# Altium schematic symbol library IVT_LIB.SchLib: 55 symbols
Pins are listed as number, name and electrical type; pins without a type are passive.

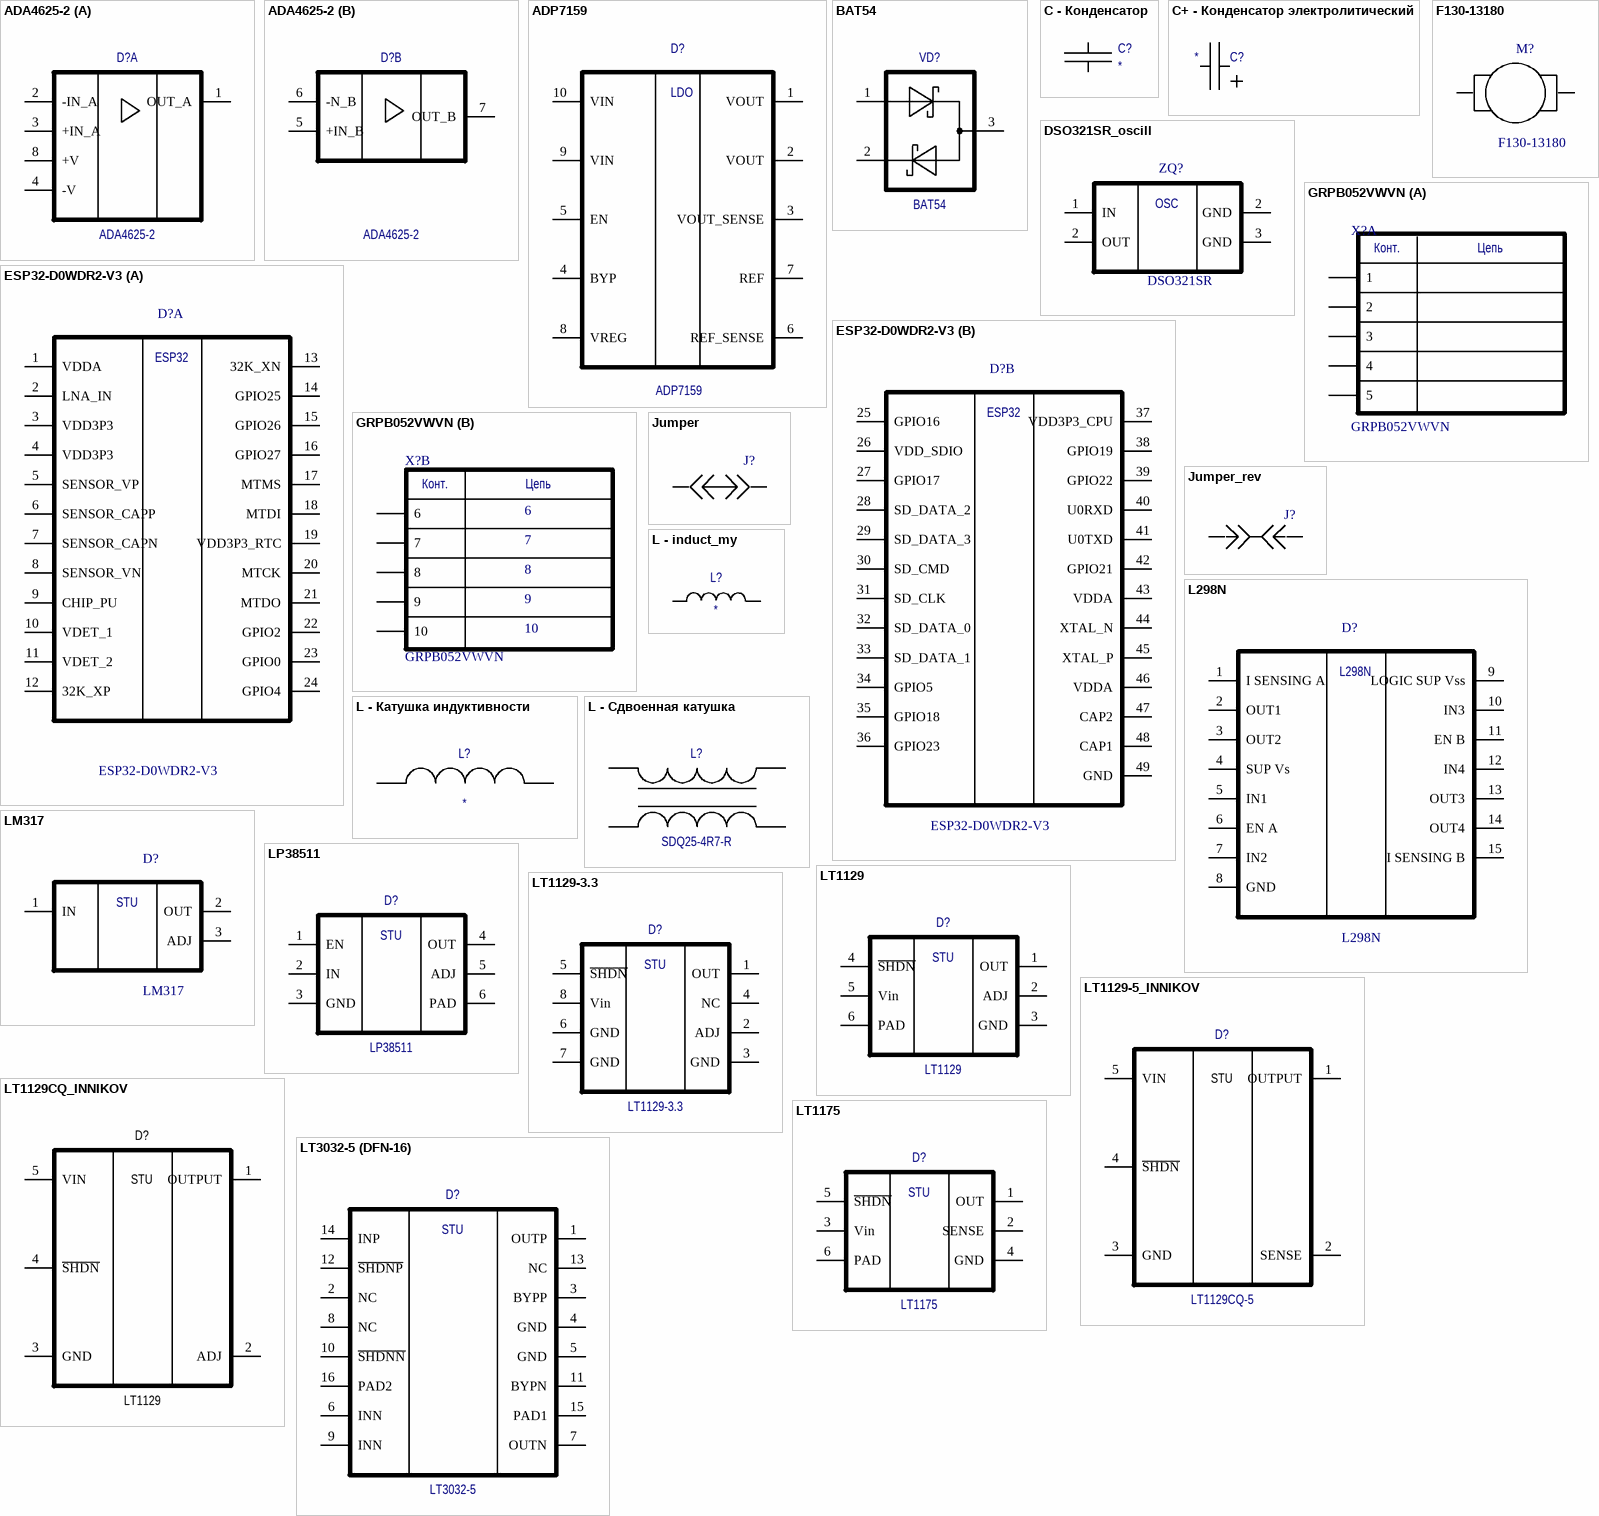
[diagram p0: symbols ADA4625-2 to LT3032-5 (DFN-16)]

## ADA4625-2
designator D?, comment value ADA4625-2  (hidden comment: ADA4625-2ARDZ (SOIC-8_N_EP) Analog Devices)
Company: Analog Devices; PartNumber: ADA4625-2ARDZ; Package: SOIC-8_N_EP
part A pins: 1 OUT_A, 2 -IN_A, 3 +IN_A, 4 -V, 8 +V
part B pins: 5 +IN_B, 6 -N_B, 7 OUT_B

## ADP7159
designator D?
pins: 1 VOUT, 2 VOUT, 3 VOUT_SENSE, 4 BYP, 5 EN, 6 REF_SENSE, 7 REF, 8 VREG, 9 VIN, 10 VIN
text: LDO

## BAT54
designator VD?
PartNumber: BAT54S; Company: Philips; Package: SOT-23; Value: BAT54
footprint SOT-23
pins: 1 A, 2 C, 3 AC

## C - Конденсатор
designator C?, comment *Ф ±* * * *, *  (value not drawn)
Company: *; PartNumber: *; Tolerance: *; Voltage: *; Type: *; Package: *; Value: *
pins: 1, 2

## C+ - Конденсатор электролитический
designator C?, comment *Ф ±* * * *, *  (value not drawn)
Company: *; Tolerance: *; Voltage: *; Type: *; PartNumber: *; Package: *; Value: *
pins: 1, 2

## DSO321SR_oscill
designator ZQ?, comment DSO321SR
pins: 1 IN, 2 GND, 2 OUT, 3 GND
text: OSC

## ESP32-D0WDR2-V3
designator D?
part A pins: 1 VDDA, 2 LNA_IN, 3 VDD3P3, 4 VDD3P3, 5 SENSOR_VP, 6 SENSOR_CAPP, 7 SENSOR_CAPN, 8 SENSOR_VN, 9 CHIP_PU, 10 VDET_1, 11 VDET_2, 12 32K_XP, 13 32K_XN, 14 GPIO25, 15 GPIO26, 16 GPIO27, 17 MTMS, 18 MTDI, 19 VDD3P3_RTC, 20 MTCK, 21 MTDO, 22 GPIO2, 23 GPIO0, 24 GPIO4
part B pins: 25 GPIO16, 26 VDD_SDIO, 27 GPIO17, 28 SD_DATA_2, 29 SD_DATA_3, 30 SD_CMD, 31 SD_CLK, 32 SD_DATA_0, 33 SD_DATA_1, 34 GPIO5, 35 GPIO18, 36 GPIO23, 37 VDD3P3_CPU, 38 GPIO19, 39 GPIO22, 40 U0RXD, 41 U0TXD, 42 GPIO21, 43 VDDA, 44 XTAL_N, 45 XTAL_P, 46 VDDA, 47 CAP2, 48 CAP1, 49 GND
part A text: ESP32
part B text: ESP32

## F130-13180
designator M?
pins: 1, 2

## GRPB052VWVN
designator X?
part A pins: 1, 2, 3, 4, 5
part B pins: 6, 7, 8, 9, 10
part A text: Конт.; Цепь
part B text: Конт.; Цепь

## Jumper
designator J?  (value not drawn)
pins: 1, 2

## Jumper_rev
designator J?, comment jumper  (value not drawn)
pins: 1, 2

## L298N
designator D?
pins: 1 I SENSING A, 2 OUT1, 3 OUT2, 4 SUP Vs, 5 IN1, 6 EN A, 7 IN2, 8 GND, 9 LOGIC SUP Vss, 10 IN3, 11 EN B, 12 IN4, 13 OUT3, 14 OUT4, 15 I SENSING B

## L - induct_my
designator L?
pins: 1, 2

## L - Катушка индуктивности
designator L?
PartNumber: SH6028-5R0YLB; Company: ABC Electronics Group; tolerance: 30%; CurrentMax: 2,4А; Package: *; Value: *
pins: 1, 2

## L - Сдвоенная катушка
designator L?, comment SDQ25-4R7-R
Company: Coiltronics; Value: SDQ25; tolerance: 20%; CurrentMax: 1,96А; PartNumber: SDQ25-4R7-R; Package: ?
pins: 1, 2, 3, 4

## LM317
designator D?
pins: 1 IN, 2 OUT, 3 ADJ
text: STU

## LP38511
designator D?
PartNumber: LP38511-ADJ; Company: Texas Instruments; Package: PFM-5; Value: LP38511
pins: 1 EN, 2 IN, 3 GND, 4 OUT, 5 ADJ, 6 PAD
text: STU

## LT1129
designator D?, comment value LT1129  (hidden comment: LT1129CQ (DD-PAK-5) Linear Technology)
Company: Linear Technology; PartNumber: LT1129CQ; Package: DD-PAK-5
pins: 1 OUT, 2 ADJ, 3 GND, 4 ~{SHDN}, 5 Vin, 6 PAD
text: STU

## LT1129-3.3
designator D?, comment value LT1129-3.3  (hidden comment: LT1129IS8-3.3 (SOIC-8) Linear Technology)
Company: Linear Technology; PartNumber: LT1129IS8-3.3; Package: SOIC-8
pins: 1 OUT, 2 ADJ, 3 GND, 4 NC, 5 ~{SHDN}, 6 GND, 7 GND, 8 Vin
text: STU

## LT1129-5_INNIKOV
designator D?, comment LT1129CQ-5
pins: 1 OUTPUT, 2 SENSE, 3 GND, 4 ~{SHDN}, 5 VIN
text: STU

## LT1129CQ_INNIKOV
designator D?, comment LT1129
pins: 1 OUTPUT, 2 ADJ, 3 GND, 4 ~{SHDN}, 5 VIN
text: STU

## LT1175
designator D?, comment value LT1175  (hidden comment: LT1175CQ (DD-PAK-5) Linear Technology)
Company: Linear Technology; PartNumber: LT1175CQ; Package: DD-PAK-5
pins: 1 OUT, 2 SENSE, 3 Vin, 4 GND, 5 ~{SHDN}, 6 PAD
text: STU

## LT3032-5 (DFN-16)
designator D?, comment LT3032-5
Company: Linear Technology; PartNumber: *; Package: DFN-16; Value: LT3032-5
footprint QFN50P400X300X80-14N (QFN, 14-Leads, Body 4,00x3,00mm, Pitch 0,50mm, IPC Medium Density)
pins: 1 OUTP, 2 NC, 3 BYPP, 4 GND, 5 GND, 6 INN, 7 OUTN, 8 NC, 9 INN, 10 ~{SHDNN}, 11 BYPN, 12 ~{SHDNP}, 13 NC, 14 INP, 15 PAD1, 16 PAD2
text: STU

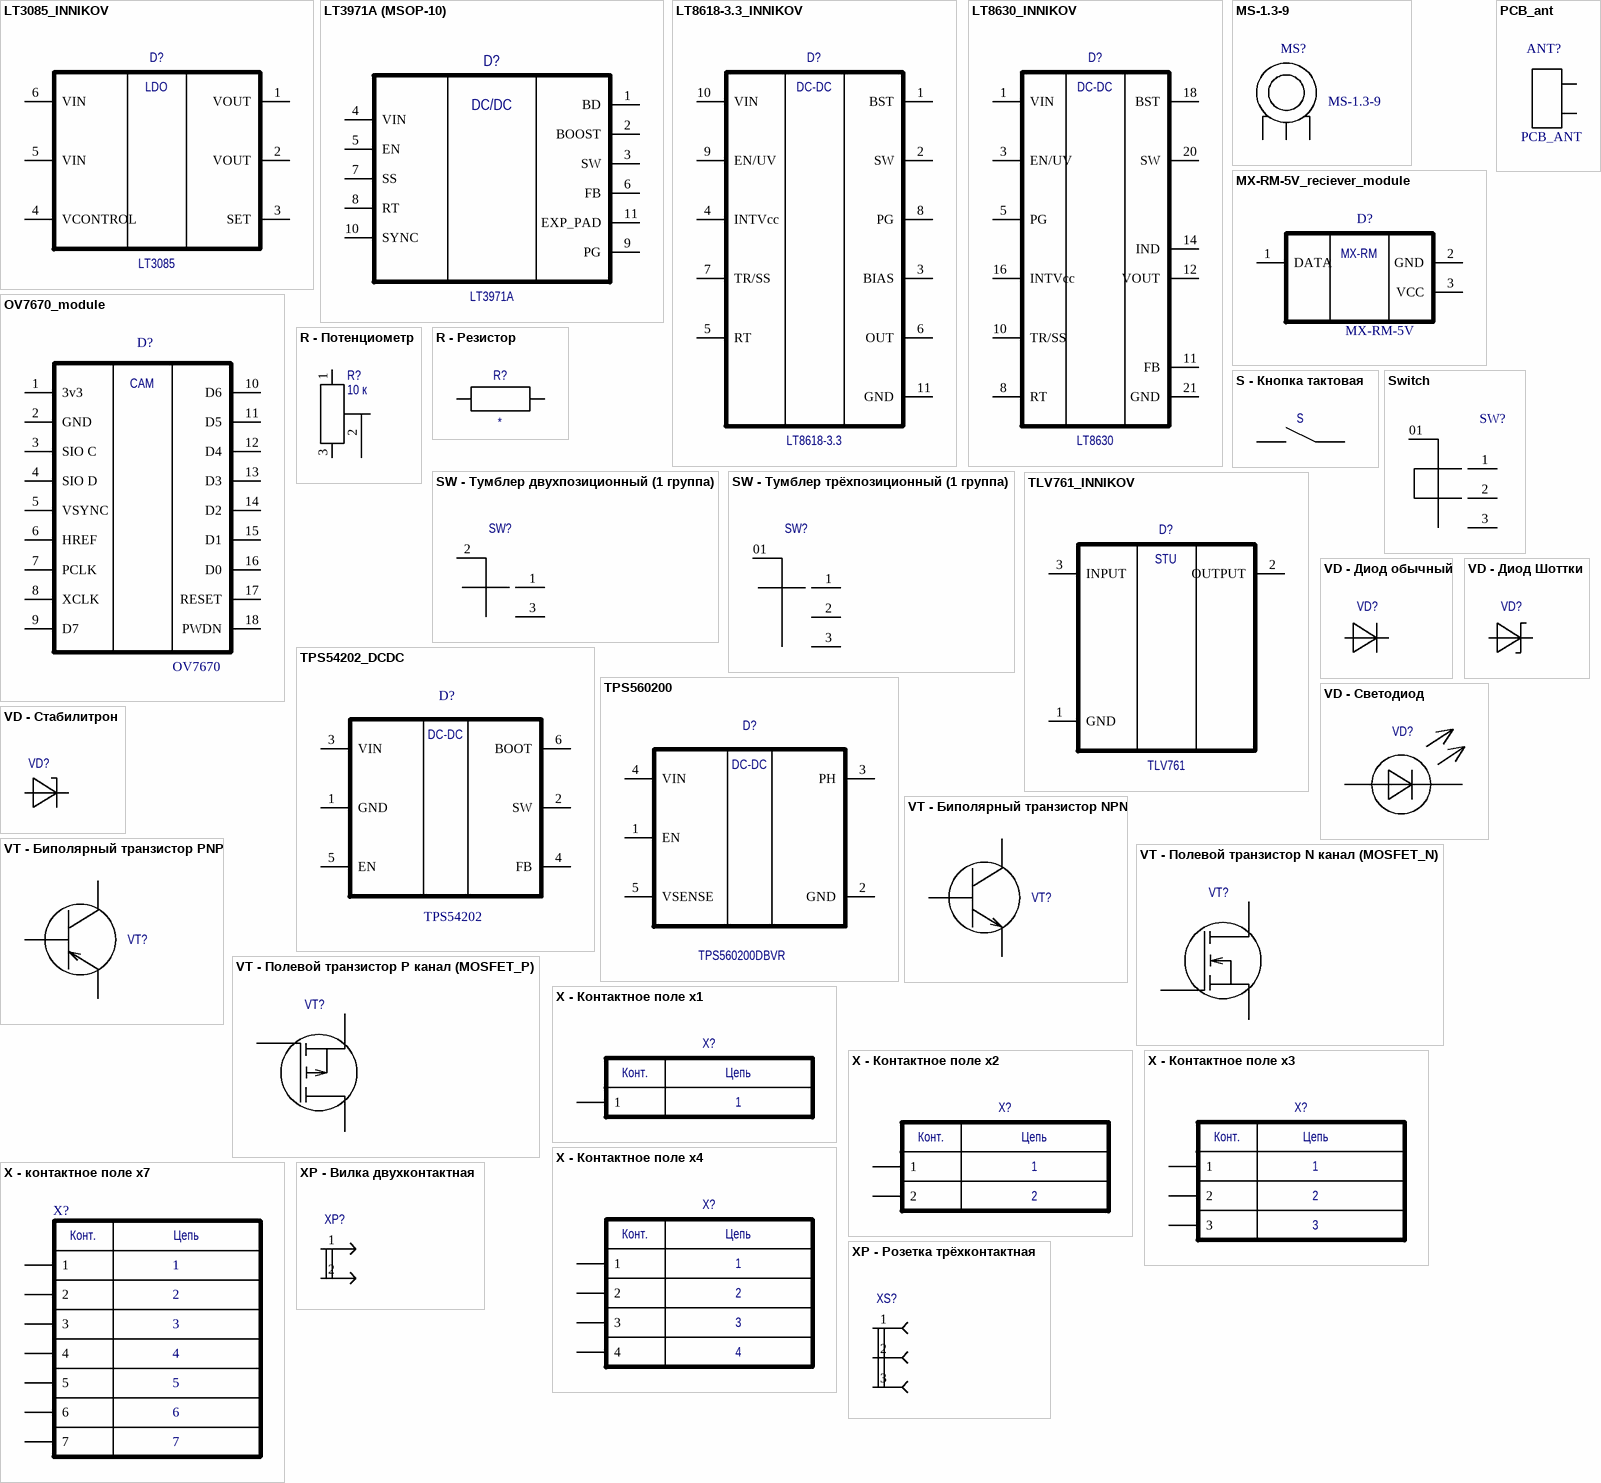
[diagram p1: symbols LT3085_INNIKOV to XP - Розетка трёхконтактная]

## LT3085_INNIKOV
designator D?, comment LT3085
pins: 1 VOUT, 2 VOUT, 3 SET, 4 VCONTROL, 5 VIN, 6 VIN
text: LDO

## LT3971A (MSOP-10)
designator D?  value LT3971A  (hidden comment: LT3971A (MSOP-10))
Company: Linear Technology; Package: MSOP-10; PartNumber: *
footprint MS10 - pad (Shrink Small Outline; 10 Leads; Body Width 3 mm; Pitch 0.5 mm)
pins: 1 BD, 2 BOOST, 3 SW, 4 VIN, 5 EN, 6 FB, 7 SS, 8 RT, 9 PG, 10 SYNC, 11 EXP_PAD
text: DC/DC

## LT8618-3.3_INNIKOV
designator D?, comment LT8618-3.3
pins: 1 BST, 2 SW, 3 BIAS, 4 INTVcc, 5 RT, 6 OUT, 7 TR/SS, 8 PG, 9 EN/UV, 10 VIN, 11 GND
text: DC-DC

## LT8630_INNIKOV
designator D?, comment LT8630
pins: 1 VIN, 3 EN/UV, 5 PG, 8 RT, 10 TR/SS, 11 FB, 12 VOUT, 14 IND, 16 INTVcc, 18 BST, 20 SW, 21 GND
text: DC-DC

## MS-1.3-9
designator MS?
pins: 1 VDD, 2 CNTRL, 2 GND

## MX-RM-5V_reciever_module
designator D?, comment MX-RM-5V
pins: 1 DATA, 2 GND, 3 VCC
text: MX-RM

## OV7670_module
designator D?, comment OV7670
pins: 1 3v3, 2 GND, 3 SIO C, 4 SIO D, 5 VSYNC, 6 HREF, 7 PCLK, 8 XCLK, 9 D7, 10 D6, 11 D5, 12 D4, 13 D3, 14 D2, 15 D1, 16 D0, 17 RESET, 18 PWDN
text: CAM

## PCB_ant
designator ANT?, comment PCB_ANT
pins: 1, 2

## R - Потенциометр
designator R?  value 10 к
PartNumber: 3296W-1-103LF; Company: Bourns; Tolerance: 20%
pins: 1, 2, 3

## R - Резистор
designator R?
Company: *; PartNumber: *; Package: *; Tolerance: *; Value: *
pins: 1, 2

## S - Кнопка тактовая
designator S, comment Тактильный переключатель KLS7-TS6604-4.3-180-B KLS  (value not drawn)
Company: KLS; PartNumber: KLS7-TS6604-4.3-180-B
pins: 2, 4

## SW - Тумблер двухпозиционный (1 группа)
designator SW?  (value not drawn)
pins: 1, 2, 3

## SW - Тумблер трёхпозиционный (1 группа)
designator SW?  (value not drawn)
pins: 1, 01, 2, 3

## Switch
designator SW?  (value not drawn)
pins: 1, 01, 2, 3

## TLV761_INNIKOV
designator D?, comment TLV761
pins: 1 GND, 2 OUTPUT, 3 INPUT
text: STU

## TPS54202_DCDC
designator D?, comment TPS54202
pins: 1 GND, 2 SW, 3 VIN, 4 FB, 5 EN, 6 BOOT
text: DC-DC

## TPS560200
designator D?, comment TPS560200DBVR
pins: 1 EN, 2 GND, 3 PH, 4 VIN, 5 VSENSE
text: DC-DC

## VD - Диод обычный
designator VD?, comment MBR0540  (value not drawn)
Company: International Rectifier; PartNumber: MBR0540; Package: SOD-123; Value: MBR0540
pins: 1 A, 1 C

## VD - Диод Шоттки
designator VD?, comment MBR0540  (value not drawn)
Company: International Rectifier; PartNumber: MBR0540; Package: SOD-123; Value: MBR0540
pins: 1 A, 1 C

## VD - Светодиод
designator VD?  (value not drawn)
pins: 1 A, 2 C

## VD - Стабилитрон
designator VD?, comment BZX84C18  (value not drawn)
Company: International Rectifier; PartNumber: BZX84C18; Package: SOD-23; Value: BZX84C18
pins: 1 A, 1 C

## VT - Биполярный транзистор NPN
designator VT?, comment BC857C (SOT-23) NXP  (value not drawn)
Package: SOT-23; PartNumber: BC857C; Company: NXP
footprint SOT-23
pins: 1, 2, 3

## VT - Биполярный транзистор PNP
designator VT?, comment BC857C (SOT-23) NXP  (value not drawn)
Package: SOT-23; PartNumber: BC857C; Company: NXP
footprint SOT-23
pins: 1, 2, 3

## VT - Полевой транзистор N канал (MOSFET_N)
designator VT?  (value not drawn)
VT
pins: 1, 2, 3

## VT - Полевой транзистор P канал (MOSFET_P)
designator VT?  (value not drawn)
VT
pins: 1, 2, 3

## X - Контактное поле х1
designator X?, comment KONT_POLE_1  (value not drawn)
1: 1
pins: 1
text: Конт.; Цепь

## X - Контактное поле х2
designator X?, comment KONT_POLE_MC_RST  (value not drawn)
1: 1; 2: 2
pins: 1, 2
text: Конт.; Цепь

## X - Контактное поле х3
designator X?, comment KONT_POLE_POWER  (value not drawn)
1: 1; 3: 3; 2: 2
pins: 1, 2, 3
text: Конт.; Цепь

## X - Контактное поле х4
designator X?, comment KONT_POLE_USB  (value not drawn)
1: 1; 2: 2; 3: 3; 4: 4
pins: 1, 2, 3, 4
text: Конт.; Цепь

## X - контактное поле х7
designator X?, comment Parameter 7: 7  Parameter 6: 6  Parameter 2: 2  Parameter 5: 5  Parameter 4: 4  Parameter 3: 3  Parameter 1: 1  (hidden comment: CONNECTOR)
pins: 1, 2, 3, 4, 5, 6, 7
text: Конт.; Цепь

## XP - Вилка двухконтактная
designator XP?, comment * (*) *  (value not drawn)
Company: *; PartNumber: *; Package: *; Value: *
pins: 1, 2

## XP - Розетка трёхконтактная
designator XS?, comment * (*) *  (value not drawn)
Company: *; PartNumber: *; Package: *; Value: *
pins: 1, 2, 3